# EAGLE library part BS62LV256SCG70 (library BSI_By_element14_Batch_1)
CMOS SRAM
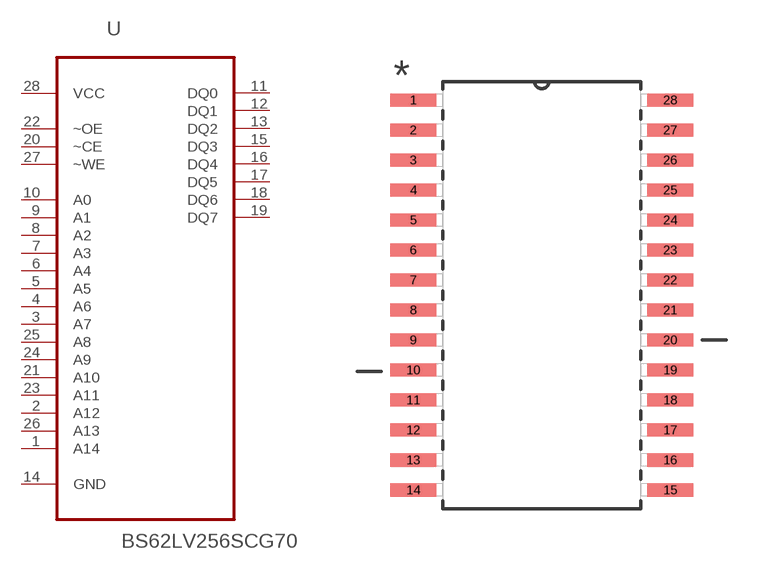
[diagram p1: symbol with the pads of SOP127P1181X284-28N; footprint SOP127P1181X284-28N]

Designator prefix U

## BS62LV256SCG70 (MPN: BS62LV256SCG70; OC_FARNELL: 1816345; OC_NEWARK: 77R3051; PACKAGE: TSSOP-28; SUPPLIER: BSI (BRILLIANCE SEMICONDUCTOR))  [SOP127P1181X284-28N]
1  A14  in
2  A12  in
3  A7  in
4  A6  in
5  A5  in
6  A4  in
7  A3  in
8  A2  in
9  A1  in
10  A0  in
11  DQ0  out
12  DQ1  out
13  DQ2  out
14  GND  pas
15  DQ3  out
16  DQ4  out
17  DQ5  out
18  DQ6  out
19  DQ7  out
20  ~CE  in
21  A10  in
22  ~OE  in
23  A11  in
24  A9  in
25  A8  in
26  A13  in
27  ~WE  in
28  VCC  pwr

## Footprint SOP127P1181X284-28N (pad centres in mm)
smd 1.93 x 0.559: 1 -5.436,8.255; 2 -5.436,6.985; 3 -5.436,5.715; 4 -5.436,4.445; 5 -5.436,3.175; 6 -5.436,1.905; 7 -5.436,0.635; 8 -5.436,-0.635; 9 -5.436,-1.905; 10 -5.436,-3.175; 11 -5.436,-4.445; 12 -5.436,-5.715; 13 -5.436,-6.985; 14 -5.436,-8.255; 15 5.436,-8.255; 16 5.436,-6.985; 17 5.436,-5.715; 18 5.436,-4.445; 19 5.436,-3.175; 20 5.436,-1.905; 21 5.436,-0.635; 22 5.436,0.635; 23 5.436,1.905; 24 5.436,3.175; 25 5.436,4.445; 26 5.436,5.715; 27 5.436,6.985; 28 5.436,8.255